# Altium integrated library DLP.IntLib: 21 symbols
Pins are listed as number, name and electrical type; pins without a type are passive.

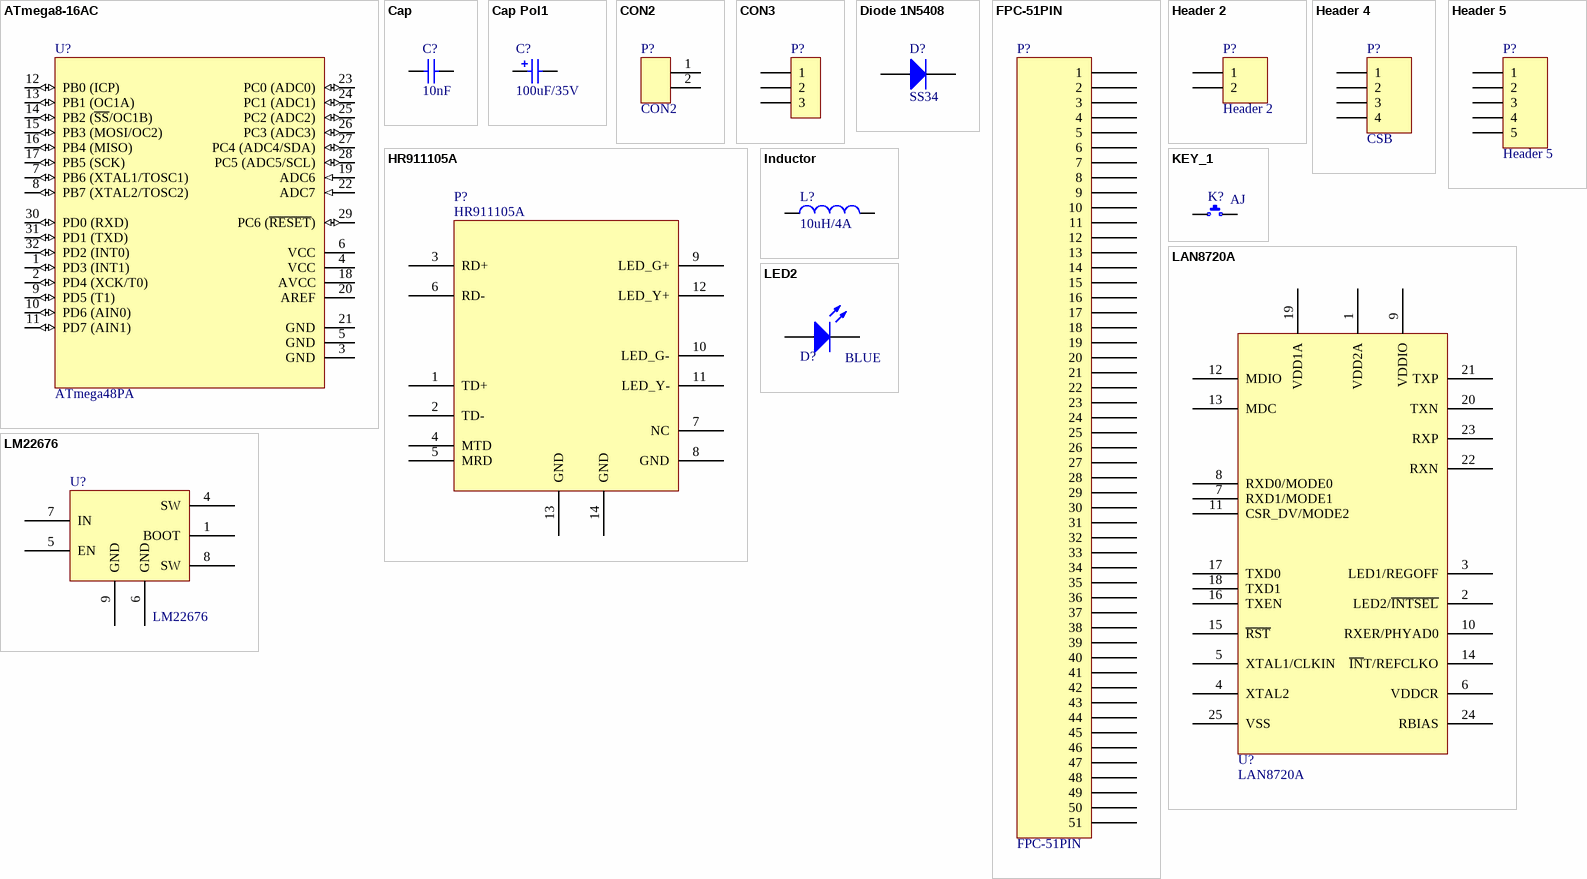
[diagram p0: symbols ATmega8-16AC to LM22676]

## ATmega8-16AC
designator U?, comment ATmega48PA
8-Bit AVR Microcontroller with 8K Bytes of In-System Programmable Flash Memory; Published: 17-Sep-2003; LatestRevisionDate: 13-Apr-2006; LatestRevisionNote: IPC-7351 Footprint Added.; DatasheetVersion: 2486H-AVR-09/02; PackageVersion: revB, Oct-2001; PackageReference: 32A; Publisher: Altium Limited; PackageDescription: 32-Pin Thin Quad Flat Pack 0.8 mm Pitch; Code_JEDEC: MS-026-ABA; ComponentLink1Description: Manufacturer Link; ComponentLink1URL: http://www.atmel.com; ComponentLink2Description: Datasheet; ComponentLink2URL: http://www.atmel.com/dyn/resources/prod_documents/doc2486.pdf
footprint 32A_N (Thin QFP, 32-Leads, Body 7x7mm, Pitch 0.8mm, IPC Medium Density)
footprint 32A_L (Thin QFP, 32-Leads, Body 7x7mm, Pitch 0.8mm, IPC High Density)
footprint 32A_M (32-Pin Thin Quad Flat Pack 0.8 mm Pitch, IPC Low Density)
3D model ATMEGA8-32A (32-Pin Thin Quad Flat Pack 0.8 mm Pitch)
pins: 1 PD3 (INT1) (io), 2 PD4 (XCK/T0) (io), 3 GND (power), 4 VCC (power), 5 GND (power), 6 VCC (power), 7 PB6 (XTAL1/TOSC1) (io), 8 PB7 (XTAL2/TOSC2) (io), 9 PD5 (T1) (io), 10 PD6 (AIN0) (io), 11 PD7 (AIN1) (io), 12 PB0 (ICP) (io), 13 PB1 (OC1A) (io), 14 PB2 (~{SS}/OC1B) (io), 15 PB3 (MOSI/OC2) (io), 16 PB4 (MISO) (io), 17 PB5 (SCK) (io), 18 AVCC (power), 19 ADC6 (in), 20 AREF, 21 GND (power), 22 ADC7 (in), 23 PC0 (ADC0) (io), 24 PC1 (ADC1) (io), 25 PC2 (ADC2) (io), 26 PC3 (ADC3) (io), 27 PC4 (ADC4/SDA) (io), 28 PC5 (ADC5/SCL) (io), 29 PC6 (~{RESET}) (io), 30 PD0 (RXD) (io), 31 PD1 (TXD) (io), 32 PD2 (INT0) (io)

## Cap
designator C?, comment 10nF
Capacitor
footprint 1608[0603]
footprint VP32-3.2
footprint VP45-3.2
footprint C0603
footprint 0603C
footprint 0603
pins: 1, 2
2 alternate drawings of the same symbol

## Cap Pol1
designator C?, comment 100uF/35V
Polarized Capacitor (Radial)
footprint ED10
footprint ED10
footprint C8
pins: 1, 2
2 alternate drawings of the same symbol

## CON2
designator P?
footprint XH2.54-2
footprint HT508V-5.08-2
footprint HT508R-5.08-02P-14
footprint DL
footprint XH2.54-2P
pins: 1, 2

## CON3
designator P?
Connector
footprint HDR1X3 (Connector; Header; 3 Position)
pins: 1, 2, 3

## Diode 1N5408
designator D?, comment SS34
3 Amp Medium Power Silicon Rectifier Diode; DatasheetDocument: Aug-1984; ComponentLink1Description: Manufacturer Link; ComponentLink1URL: http://www.irf.com/
footprint do214ac
footprint SMB
pins: 1 A, 2 K
2 alternate drawings of the same symbol

## FPC-51PIN
designator P?
footprint FH26-51S-0.3SHW
pins: 1, 2, 3, 4, 5, 6, 7, 8, 9, 10, 11, 12, 13, 14, 15, 16, 17, 18, 19, 20, 21, 22, 23, 24, 25, 26, 27, 28, 29, 30, 31, 32, 33, 34, 35, 36, 37, 38, 39, 40, 41, 42, 43, 44, 45, 46, 47, 48, 49, 50, 51

## Header 2
designator P?
Header, 2-Pin; LatestRevisionDate: 17-Jul-2002; LatestRevisionNote: Re-released for DXP Platform.; Publisher: Altium Limited
footprint PH2.0-2P
signal-integrity model Connector
pins: 1, 2

## Header 4
designator P?, comment CSB
Header, 4-Pin; LatestRevisionDate: 17-Jul-2002; LatestRevisionNote: Re-released for DXP Platform.; Publisher: Altium Limited
footprint HDR1X4 (Connector; Header; 4 Position)
signal-integrity model Connector
pins: 1, 2, 3, 4

## Header 5
designator P?
Header, 5-Pin; LatestRevisionDate: 17-Jul-2002; LatestRevisionNote: Re-released for DXP Platform.; Publisher: Altium Limited
footprint HDR1X5 (Connector; Header; 5 Position)
signal-integrity model Connector
pins: 1, 2, 3, 4, 5

## HR911105A
designator P?
footprint HR911105A
pins: 1 TD+, 2 TD-, 3 RD+, 4 MTD, 5 MRD, 6 RD-, 7 NC, 8 GND, 9 LED_G+, 10 LED_G-, 11 LED_Y-, 12 LED_Y+, 13 GND, 14 GND

## Inductor
designator L?, comment 10uH/4A
Inductor
footprint CD12
footprint L0603
footprint 2012_Chip
footprint 2029
footprint 8040
pins: 1, 2
2 alternate drawings of the same symbol

## KEY_1
designator K?, comment AJ
footprint 6*6
footprint 6*6*4.3
footprint 11*11*8.5
footprint SW
footprint 4*4*1.5
pins: 1, 2, 3, 4

## LAN8720A
designator U?
footprint QFN24_4X4MM
pins: 1 VDD2A, 2 LED2/~{INTSEL}, 3 LED1/REGOFF, 4 XTAL2, 5 XTAL1/CLKIN, 6 VDDCR, 7 RXD1/MODE1, 8 RXD0/MODE0, 9 VDDIO, 10 RXER/PHYAD0, 11 CSR_DV/MODE2, 12 MDIO, 13 MDC, 14 ~{IN}T/REFCLKO, 15 ~{RST}, 16 TXEN, 17 TXD0, 18 TXD1, 19 VDD1A, 20 TXN, 21 TXP, 22 RXN, 23 RXP, 24 RBIAS, 25 VSS

## LED2
designator D?, comment BLUE
Typical RED, GREEN, YELLOW, AMBER GaAs LED
footprint D0603
footprint 0603D
pins: 1 A, 2 K
2 alternate drawings of the same symbol

## LM22676
designator U?
footprint SO-8HP
pins: 1 BOOT, 4 SW, 5 EN, 6 GND, 7 IN, 8 SW, 9 GND
2 alternate drawings of the same symbol

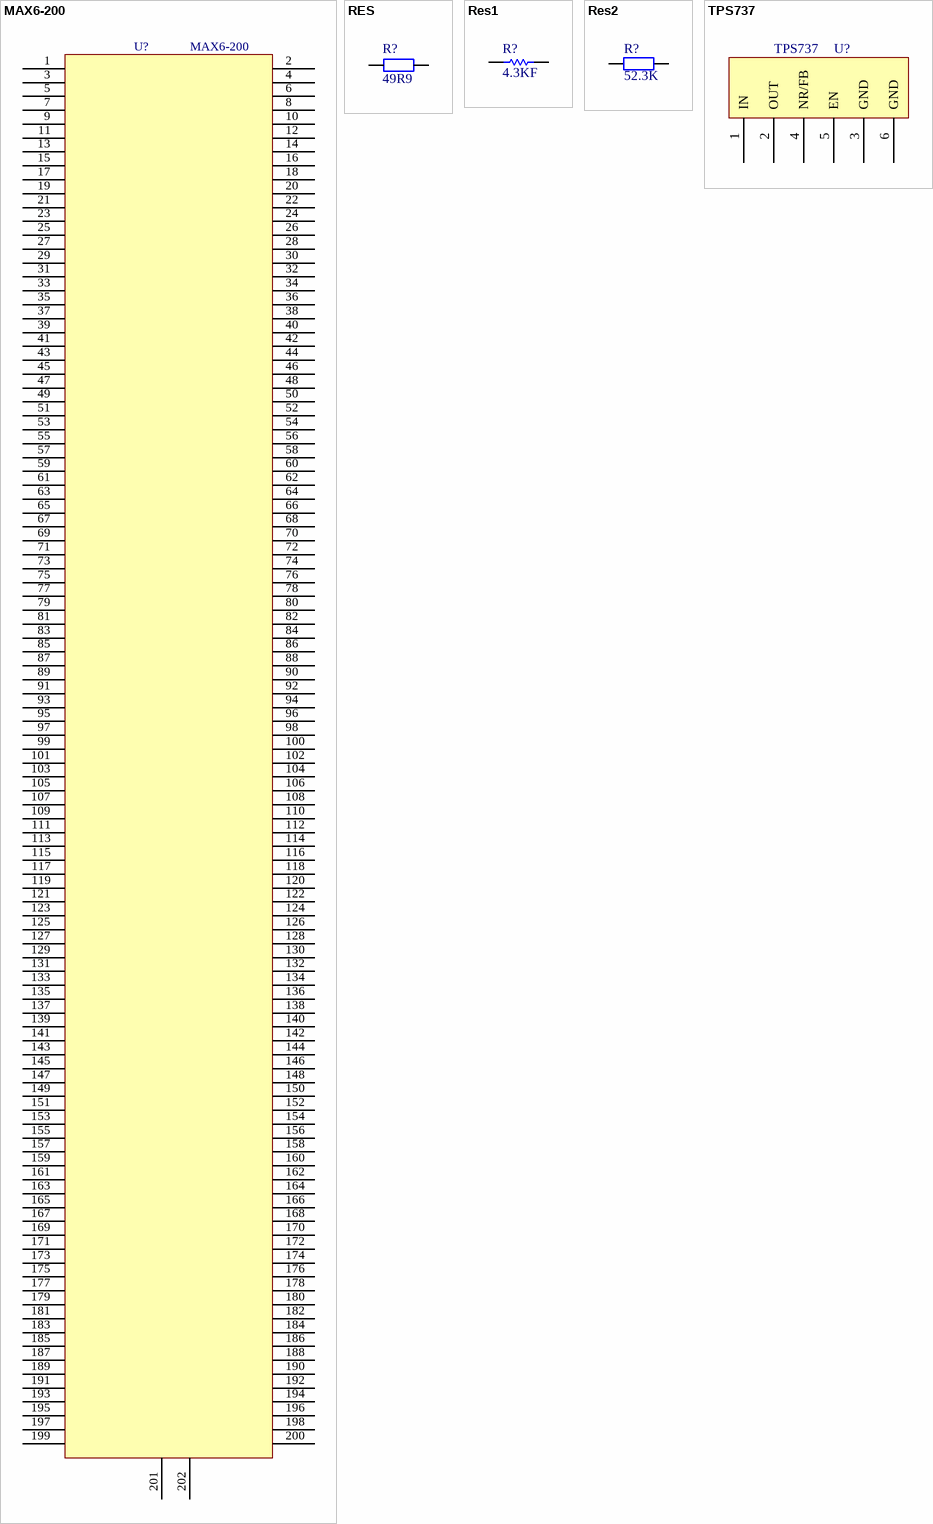
[diagram p1: symbols MAX6-200 to TPS737]

## MAX6-200
designator U?
footprint SO-DIMM 200
pins: 1, 2, 3, 4, 5, 6, 7, 8, 9, 10, 11, 12, 13, 14, 15, 16, 17, 18, 19, 20, 21, 22, 23, 24, 25, 26, 27, 28, 29, 30, 31, 32, 33, 34, 35, 36, 37, 38, 39, 40, 41, 42, 43, 44, 45, 46, 47, 48, 49, 50, 51, 52, 53, 54, 55, 56, 57, 58, 59, 60, 61, 62, 63, 64, 65, 66, 67, 68, 69, 70, 71, 72, 73, 74, 75, 76, 77, 78, 79, 80, 81, 82, 83, 84, 85, 86, 87, 88, 89, 90, 91, 92, 93, 94, 95, 96, 97, 98, 99, 100, 101, 102, 103, 104, 105, 106, 107, 108, 109, 110, 111, 112, 113, 114, 115, 116, 117, 118, 119, 120, 121, 122, 123, 124, 125, 126, 127, 128, 129, 130, 131, 132, 133, 134, 135, 136, 137, 138, 139, 140, 141, 142, 143, 144, 145, 146, 147, 148, 149, 150, 151, 152, 153, 154, 155, 156, 157, 158, 159, 160, 161, 162, 163, 164, 165, 166, 167, 168, 169, 170, 171, 172, 173, 174, 175, 176, 177, 178, 179, 180, 181, 182, 183, 184, 185, 186, 187, 188, 189, 190, 191, 192, 193, 194, 195, 196, 197, 198, 199, 200, 201, 202

## RES
designator R?, comment 49R9
footprint 0805R
footprint 0603R
footprint 1206R
footprint RES-3W
pins: 1, 2

## Res1
designator R?, comment 4.3KF
Resistor
footprint 1608[0603]
footprint 0603R
pins: 1, 2
2 alternate drawings of the same symbol

## Res2
designator R?, comment 52.3K
Resistor; Published: 8-Jun-2000; LatestRevisionDate: 17-Jul-2002; LatestRevisionNote: Re-released for DXP Platform.; PackageReference: AXIAL-0.4; Publisher: Altium Limited; PackageDescription: Axial Device, Thru-Hole; 2 Leads; 0.4 in Pin Spacing
footprint 1608[0603]
footprint 0603R
pins: 1, 2
2 alternate drawings of the same symbol

## TPS737
designator U?
footprint SOT223-6
pins: 1 IN, 2 OUT, 3 GND, 4 NR/FB, 5 EN, 6 GND